# EAGLE library part BME280 (library BME280)
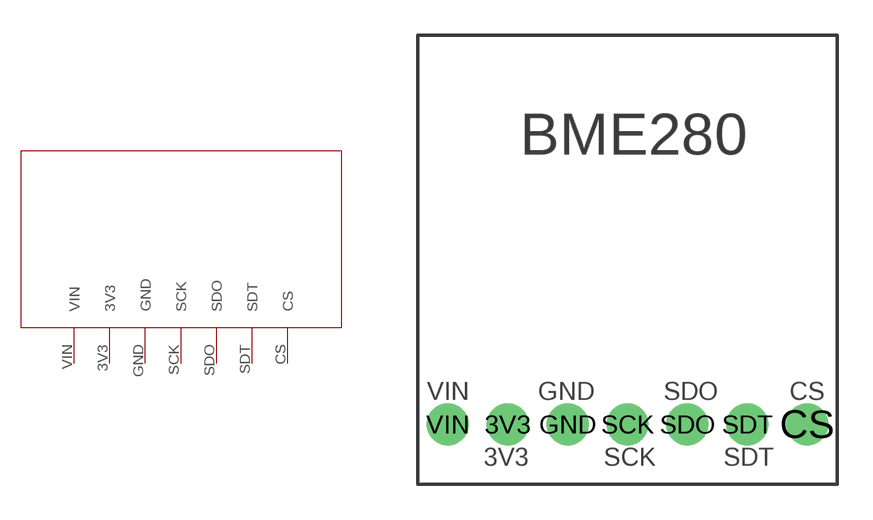
[diagram p0: symbol with the pads of BME280; footprint BME280]

Designator prefix -

## BME280  [BME280]
3V3  3V3
CS  CS
GND  GND
SCK  SCK
SDO  SDO
SDT  SDT
VIN  VIN

## Footprint BME280 (pad centres in mm)
drill 1 pad 1.778: 3V3 3.81,2.54; CS 16.51,2.54; GND 6.35,2.54; SCK 8.89,2.54; SDO 11.43,2.54; SDT 13.97,2.54; VIN 1.27,2.54